# EAGLE library part ARF7678AA (library adeunis)
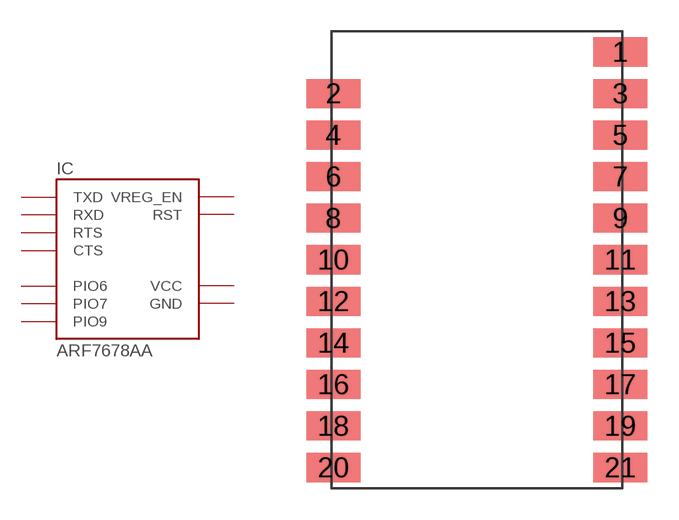
[diagram p0: symbol with the pads of ARF7678; footprint ARF7678]

Designator prefix IC

## ARF7678AAAA  [ARF7678]
1  GND
2  VCC
4  RST
5  GND
6  GND
9  TXD
11  RXD
13  RTS
15  CTS
16  PIO6
17  PIO7
19  VREG_EN
21  PIO9

## Footprint ARF7678 (pad centres in mm)
smd 2.6 x 1.4: 1 6.9,10; 2 -6.9,8; 3 6.9,8; 4 -6.9,6; 5 6.9,6; 6 -6.9,4; 7 6.9,4; 8 -6.9,2; 9 6.9,2; 10 -6.9,0; 11 6.9,0; 12 -6.9,-2; 13 6.9,-2; 14 -6.9,-4; 15 6.9,-4; 16 -6.9,-6; 17 6.9,-6; 18 -6.9,-8; 19 6.9,-8; 20 -6.9,-10; 21 6.9,-10